# EAGLE library part M25P20-VMN6TPB (library SamacSys_Parts)
NOR Flash Serial-SPI 2.5V/3V/3.3V 2M-bit 256K x 8 8ns 8-Pin SOIC N T/R Source: Datasheet <https://componentsearchengine.com/Datasheets/1/M25P20-VMN6TPB.pdf>
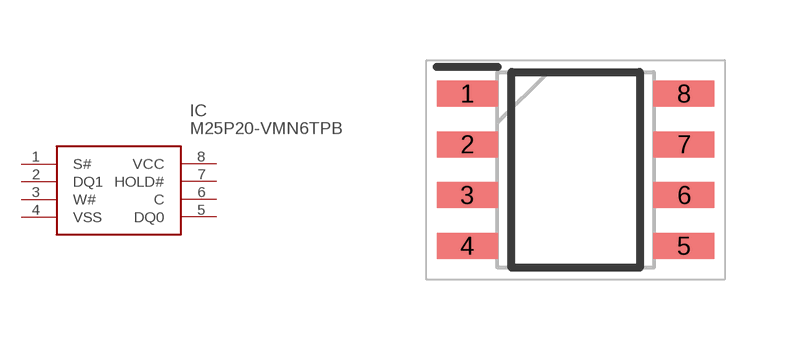
[diagram p84: symbol with the pads of SOIC127P600X175-8N; footprint SOIC127P600X175-8N]

Designator prefix IC

## M25P20-VMN6TPB (DESCRIPTION: NOR Flash Serial-SPI 2.5V/3V/3.3V 2M-bit 256K x 8 8ns 8-Pin SOIC N T/R; HEIGHT: 1.75mm; MANUFACTURER_NAME: Micron; MANUFACTURER_PART_NUMBER: M25P20-VMN6TPB; MOUSER_PART_NUMBER: 340-180514; MOUSER_PRICE-STOCK: https://www.mouser.com/Search/Refine.aspx?Keyword=340-180514)  [SOIC127P600X175-8N]
1  S#
2  DQ1
3  W#
4  VSS
5  DQ0
6  C
7  HOLD#
8  VCC

## Footprint SOIC127P600X175-8N (pad centres in mm)
SO8N 8-lead plastic small outline, 150 mils body width
smd 1.525 x 0.65: 1 -2.712,1.905; 2 -2.712,0.635; 3 -2.712,-0.635; 4 -2.712,-1.905; 5 2.712,-1.905; 6 2.712,-0.635; 7 2.712,0.635; 8 2.712,1.905